# Altium schematic symbol library Schlib2.SchLib: 27 symbols
Pins are listed as number, name and electrical type; pins without a type are passive.

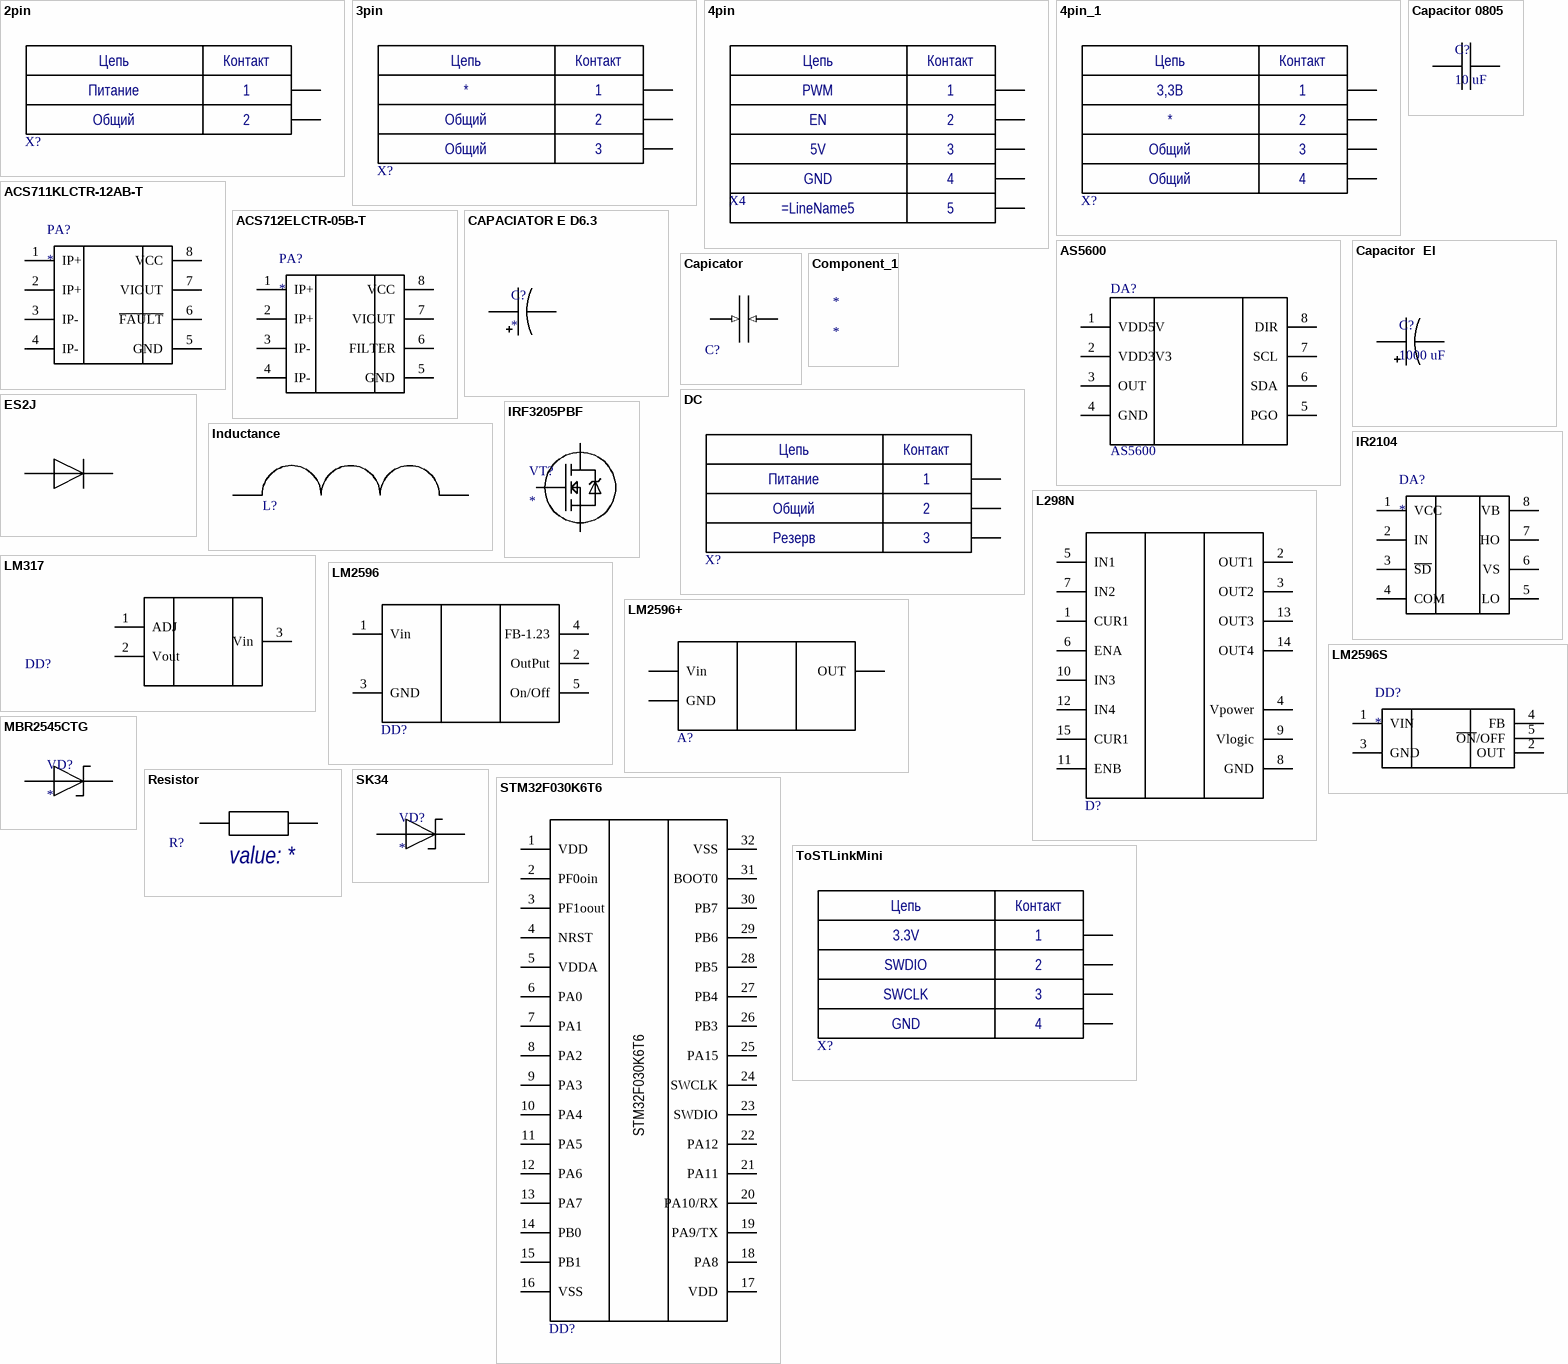
[diagram p0: symbols 2pin to ToSTLinkMini]

## 2pin
designator X?  (value not drawn)
LineName1: Питание; LineName2: Общий
footprint 2pin5mmugol
footprint 2PIN
footprint 2PinPolar
footprint 2pinVint
footprint 2PowerBolt
footprint 2pin, 2.54mm, pruz
footprint 2pin5mmVintKlemm
footprint Torec-Power
footprint 2PowerM2
footprint 2-MGHW
footprint ConsConn-3,5mm-2pin
footprint ConsConn-3,5mm-2pin-Debug
footprint HU2
pins: 1, 2 -Vout
text: Цепь; Контакт

## 3pin
designator X?  (value not drawn)
LineName2: Общий; LineName1: *; LineName3: Общий
footprint 3pin
footprint 3pinVint
footprint 3pin, 2.54mm, pruz
footprint 3pin 2mm
footprint 3 pin KF350 & P2.54
footprint 3 pin KF350
footprint 3-MGHW
footprint 3x8MaketPow
footprint HU3
footprint Torec-1,27mm-3pin
footprint Torec-1-1,27mm-3pin
pins: 1, 2 -Vout, 3 -Vout
text: Цепь; Контакт

## 4pin
designator X4  (value not drawn)
LineName1: PWM; LineName2: EN; LineName3: 5V; LineName4: GND
footprint 4pin,5mm,pruz
footprint 4pin
footprint 4pin, 2.54mm, pruz
footprint 4pin 2mm
footprint Torec-1,27mm-4pin
footprint MicroFit 3.0 2*2
footprint HU4
footprint Torec-1mm-4pin
pins: 1, 2 -Vout, 3 -Vout, 4 -Vout, 4 -Vout
text: Цепь; Контакт; 5

## 4pin_1
designator X?, comment 4pin  (value not drawn)
LineName1: 3,3В; LineName3: Общий; LineName2: *; LineName4: Общий
footprint 4pin,5mm,pruz
footprint 4pin
footprint 4pin, 2.54mm, pruz
footprint 4pin 2mm
footprint Torec-1,27mm-4pin
footprint MicroFit 3.0 2*2
footprint HU4
footprint Torec-1mm-4pin
pins: 1, 2 -Vout, 3 -Vout, 4 -Vout
text: Цепь; Контакт

## ACS711KLCTR-12AB-T
designator PA?
footprint ACS711KLCTR-12AB-T (SOIC, 8-Leads, Body 4,90x3,90mm, Pitch 1,27mm, IPC Medium Density)
pins: 1 IP+, 2 IP+, 3 IP-, 4 IP-, 5 GND, 6 ~{FAULT}, 7 VIOUT, 8 VCC

## ACS712ELCTR-05B-T
designator PA?
footprint ACS712ELCTR-05B-T (SOIC, 8-Leads, Body 4,90x3,90mm, Pitch 1,27mm, IPC Medium Density)
pins: 1 IP+, 2 IP+, 3 IP-, 4 IP-, 5 GND, 6 FILTER, 7 VIOUT, 8 VCC

## AS5600
designator DA?
Reference: https://aliexpress.ru/item/4001190146547.html?spm=a2g0o.search0302.0.0.391f12cf68ntH5&algo_pvid=4adb70b5-0f0b-41d6-8c9b-7ba1863a7116&algo_expid=4adb70b5-0f0b-41d6-8c9b-7ba1863a7116-55&btsid=0b8b035916096811941256657eb370&ws_ab_test=searchweb0_0,searchweb201602_,searchweb201603_&sku_id=10000015233570585
footprint SOIC8 (SOIC, 8-Leads, Body 4,90x3,90mm, Pitch 1,27mm, IPC Medium Density)
pins: 1 VDD5V, 2 VDD3V3, 3 OUT, 4 GND, 5 PGO, 6 SDA, 7 SCL, 8 DIR

## CAPACIATOR E D6.3
designator C?
footprint CAPACIATOR 3 D6.3
footprint Capacitor 220nF E
pins: 1 3, 2 3

## Capacitor 0805
designator C?, comment 10 uF
Parameter 1: *
footprint CAP 10 uF (Chip Capacitor, 2-Leads, Body 1,93x1,25mm, IPC Medium Density)
pins: 1, 2

## Capacitor  El
designator C?, comment 1000 uF
footprint Cap 1000 uF (Aluminum Electrolytic Capacitor, Body 17,00x17,00x17,00mm, IPC Low Density)
footprint cap 1000 (Aluminum Electrolytic Capacitor, Body 17,00x17,00x17,00mm, IPC Low Density)
pins: 1 3, 2 4

## Capicator
designator C?, comment Cp  (value not drawn)
Value: *
footprint 0603 (Chip Resistor, 2-Leads, Body 1,60x0,85mm, IPC Medium Density)
footprint 1210 (Chip Resistor, 2-Leads, Body 3,10x2,60mm, IPC Medium Density)
footprint 1812
footprint 2220
footprint 0805 (Chip Resistor, 2-Leads, Body 2,10x1,30mm, IPC Medium Density)
footprint 0402
footprint 0402-1210
footprint DiscCapicatorHorisontal
footprint DiscCapicatorVertical
footprint MBM 12x30
footprint CapicatorYellow_13x12x6_P:10mm
footprint 0201 (Chip Capacitor, 2-Leads, Body 0,60x0,30mm, IPC Medium Density)
footprint 0402-0805
footprint C-green 10.5x16x6.5, P:7мм
footprint 1206
footprint C-green 7x12x4, P:5мм
pins: 1 (in) "Информационный вход Х6", 2 (in) "Информационный вход Х6"

## Component_1
designator *

## DC
designator X?  (value not drawn)
PowerName: Питание; GroundName: Общий; ReservName: Резерв
footprint DC_6mm
footprint DC_6mm-for-CNC
footprint DC 3,5*1,3
pins: 1, 2 -Vout, 3 -Vout
text: Цепь; Контакт

## ES2J
designator VD?, comment 4pin
LineName1: 3,3В; LineName3: Общий; LineName2: *; LineName4: Общий
footprint DO-214AA
pins: 1, 2 1

## Inductance
designator L?  (value not drawn)
Inductance: uH
footprint SCDS103
footprint SCDS103-for-CNC
pins: 1 (power), 2 (power)

## IR2104
designator DA?
footprint IR2104 (SOIC, 8-Leads, Body 4,90x3,90mm, Pitch 1,27mm, IPC Medium Density)
pins: 1 VCC, 2 IN, 3 ~{SD}, 4 COM, 5 LO, 6 VS, 7 HO, 8 VB

## IRF3205PBF
designator VT?
N-Channel 55V 110A _Tc_ 200W _Tc_ Through Hole TO-220AB; MP: IRF3205PBF; MF: Infineon Technologies; Package: TO-220 International Rectifier; Value: *; Availability: Unavailable; Price: None; SnapEDA_Link: https://www.snapeda.com/parts/IRF3205PBF/Infineon%20Technologies/view-part/98571/?ref=snap
footprint TO-220AB (TO, Thru-Hole, Vertical, Heatsink Mounted; 3 In-Line Leads; Pitch 2.54 mm)
pins: 1 5, 2 6, 3 7

## L298N
designator D?  (value not drawn)
footprint MiniWatt15
pins: 1 CUR1, 2 OUT1, 3 OUT2, 4 Vpower, 5 IN1, 6 ENA, 7 IN2, 8 GND, 9 Vlogic, 10 IN3, 11 ENB, 12 IN4, 13 OUT3, 14 OUT4, 15 CUR1

## LM317
designator DD?  (value not drawn)
footprint TO220RadVert
footprint TO92
footprint DPAK (D-PAK, 3-Pads, Body 6,35x6,86mm (max), IPC Medium Density)
pins: 1 ADJ, 2 Vout, 3 Vin

## LM2596
designator DD?  (value not drawn)
Vout: 1.23*(1+R2/R1); R1: 1K; R2: R1*(Vout/1.23 - 1); Vout: *
footprint D2PAK-5
pins: 1 Vin, 2 OutPut, 3 GND, 4 FB-1.23, 5 On/Off

## LM2596+
designator A?  (value not drawn)
footprint LM2596+
footprint LM2596CompactMadule
footprint LM2596+CNC
pins: 1 Vin, 2 PreOut hidden to LM2596-KeyOut, 3 GND, 4 FB-1.23 hidden to LM2596-FB1.23, 6 Led- hidden to LM2596-LED-, 7 OUT

## LM2596S
designator DD?
footprint LM2596
pins: 1 VIN, 2 OUT, 3 GND, 4 FB, 5 ~{ON}/OFF

## MBR2545CTG
designator VD?
footprint MBR2545CTG
pins: 1, 2

## Resistor
designator R?  (value not drawn)
TU: ШКАБ.434110.002ТУ; Reference: *; value: *
footprint 0603 (Chip Resistor, 2-Leads, Body 1,60x0,85mm, IPC Medium Density)
footprint 1210 (Chip Resistor, 2-Leads, Body 3,10x2,60mm, IPC Medium Density)
footprint 2010 (Chip Resistor, 2-Leads, Body 5,00x2,50mm, IPC Medium Density)
footprint 2512 (Chip Resistor, 2-Leads, Body 6,35x3,20mm, IPC Medium Density)
footprint 2PIN
footprint 0805 (Chip Resistor, 2-Leads, Body 2,10x1,30mm, IPC Medium Density)
footprint 0402
footprint ResPin
footprint 0402-1210
footprint Res-5W
footprint 0402-0805
footprint Res_1W_Vert
footprint 0201 (Chip Capacitor, 2-Leads, Body 0,60x0,30mm, IPC Medium Density)
footprint 1206
footprint 0201 shift
footprint 2PowerM2
footprint 0402 big
footprint RESGATE
pins: 1, 2

## SK34
designator VD?
footprint SK34 (Molded Capacitor, 2-Leads, Body 7,20x5,80mm, IPC Medium Density)
pins: 1, 2

## STM32F030K6T6
designator DD?  (value not drawn)
footprint QFP32(7x7) (QFP, 32-Leads, Body 7,00x7,00mm, Pitch 0,80mm, IPC Medium Density)
footprint STM32F030K6T6+
footprint STM32F030K6+Not_resettable
pins: 1 VDD, 2 PF0oin, 3 PF1oout, 4 NRST, 5 VDDA, 6 PA0, 7 PA1, 8 PA2, 9 PA3, 10 PA4, 11 PA5, 12 PA6, 13 PA7, 14 PB0, 15 PB1, 16 VSS, 17 VDD, 18 PA8, 19 PA9/TX, 20 PA10/RX, 21 PA11, 22 PA12, 23 SWDIO, 24 SWCLK, 25 PA15, 26 PB3, 27 PB4, 28 PB5, 29 PB6, 30 PB7, 31 BOOT0, 32 VSS

## ToSTLinkMini
designator X?  (value not drawn)
footprint 4pin
footprint ToSTLink
pins: 1, 2 -Vout, 3 -Vout, 4 -Vout
text: Цепь; Контакт; 3.3V; SWDIO; SWCLK; GND